# EAGLE library part KAYO_CH340C (library kxnStandard_interface)
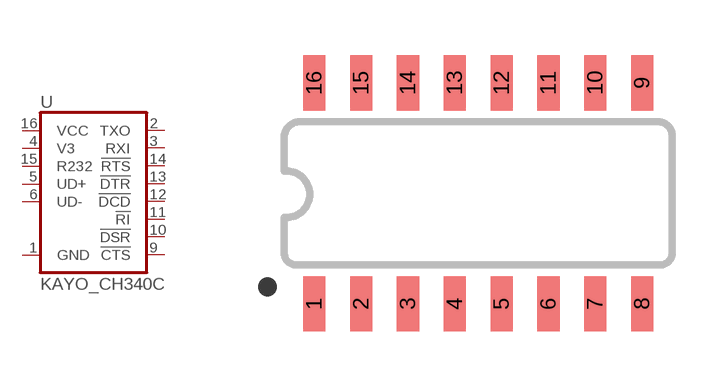
[diagram p2: symbol with the pads of SO016; footprint SO016]

Designator prefix U

## KAYO_CH340C (AVAILABILITY: Unavailable; CC_COST: 2.1; CC_ID: 572355836370; CC_SHOP: CongCo; DESCRIPTION: USB to serial chip CH340; INFO: IC USB Uart-TTL CH340C IC SOP16; KXN_ID: SAch340c16; LINK_MH: https://www.thegioiic.com/ch340c-ic-usb-transceiver-2mbps-16-sop; MF: WCH; MP: CH340C; PACKAGE: Package; PRICE: None; VALUE: CH340C_SOP16)  [SO016]
1  GND
2  TXO
3  RXI
4  V3
5  UD+
6  UD-
9  !CTS
10  !DSR
11  !RI
12  !DCD
13  !DTR
14  !RTS
15  R232
16  VCC

## Footprint SO016 (pad centres in mm)
smd 0.6 x 1.5: 1 -4.445,-3; 2 -3.175,-3; 3 -1.905,-3; 4 -0.635,-3; 5 0.635,-3; 6 1.905,-3; 7 3.175,-3; 8 4.445,-3; 9 4.445,3; 10 3.175,3; 11 1.905,3; 12 0.635,3; 13 -0.635,3; 14 -1.905,3; 15 -3.175,3; 16 -4.445,3